# EAGLE library part BSO200P03S_H (library FaBo-Mosfet)
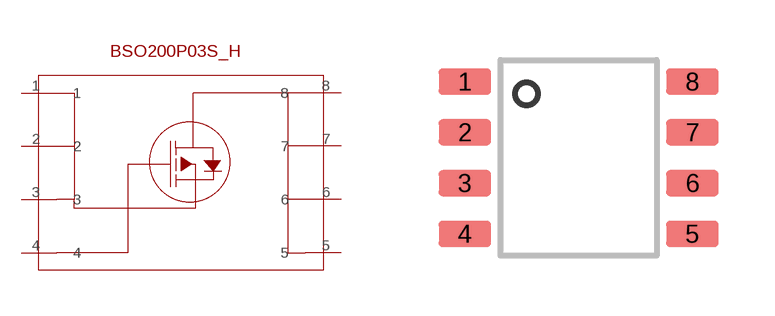
[diagram p4: symbol with the pads of BSO200P03S_H; footprint BSO200P03S_H]

Designator prefix -

## BSO200P03S_H  [BSO200P03S_H]
1  1
2  2
3  3
4  4
5  5
6  6
7  7
8  8

## Footprint BSO200P03S_H (pad centres in mm)
smd 1.31 x 0.65: 1 -2.845,1.905; 2 -2.845,0.635; 3 -2.845,-0.635; 4 -2.845,-1.905; 5 2.845,-1.905; 6 2.845,-0.635; 7 2.845,0.635; 8 2.845,1.905